# Altium integrated library ST Memory EPROM 1-16 Mbit.IntLib: 1093 symbols (part 15 of 25)
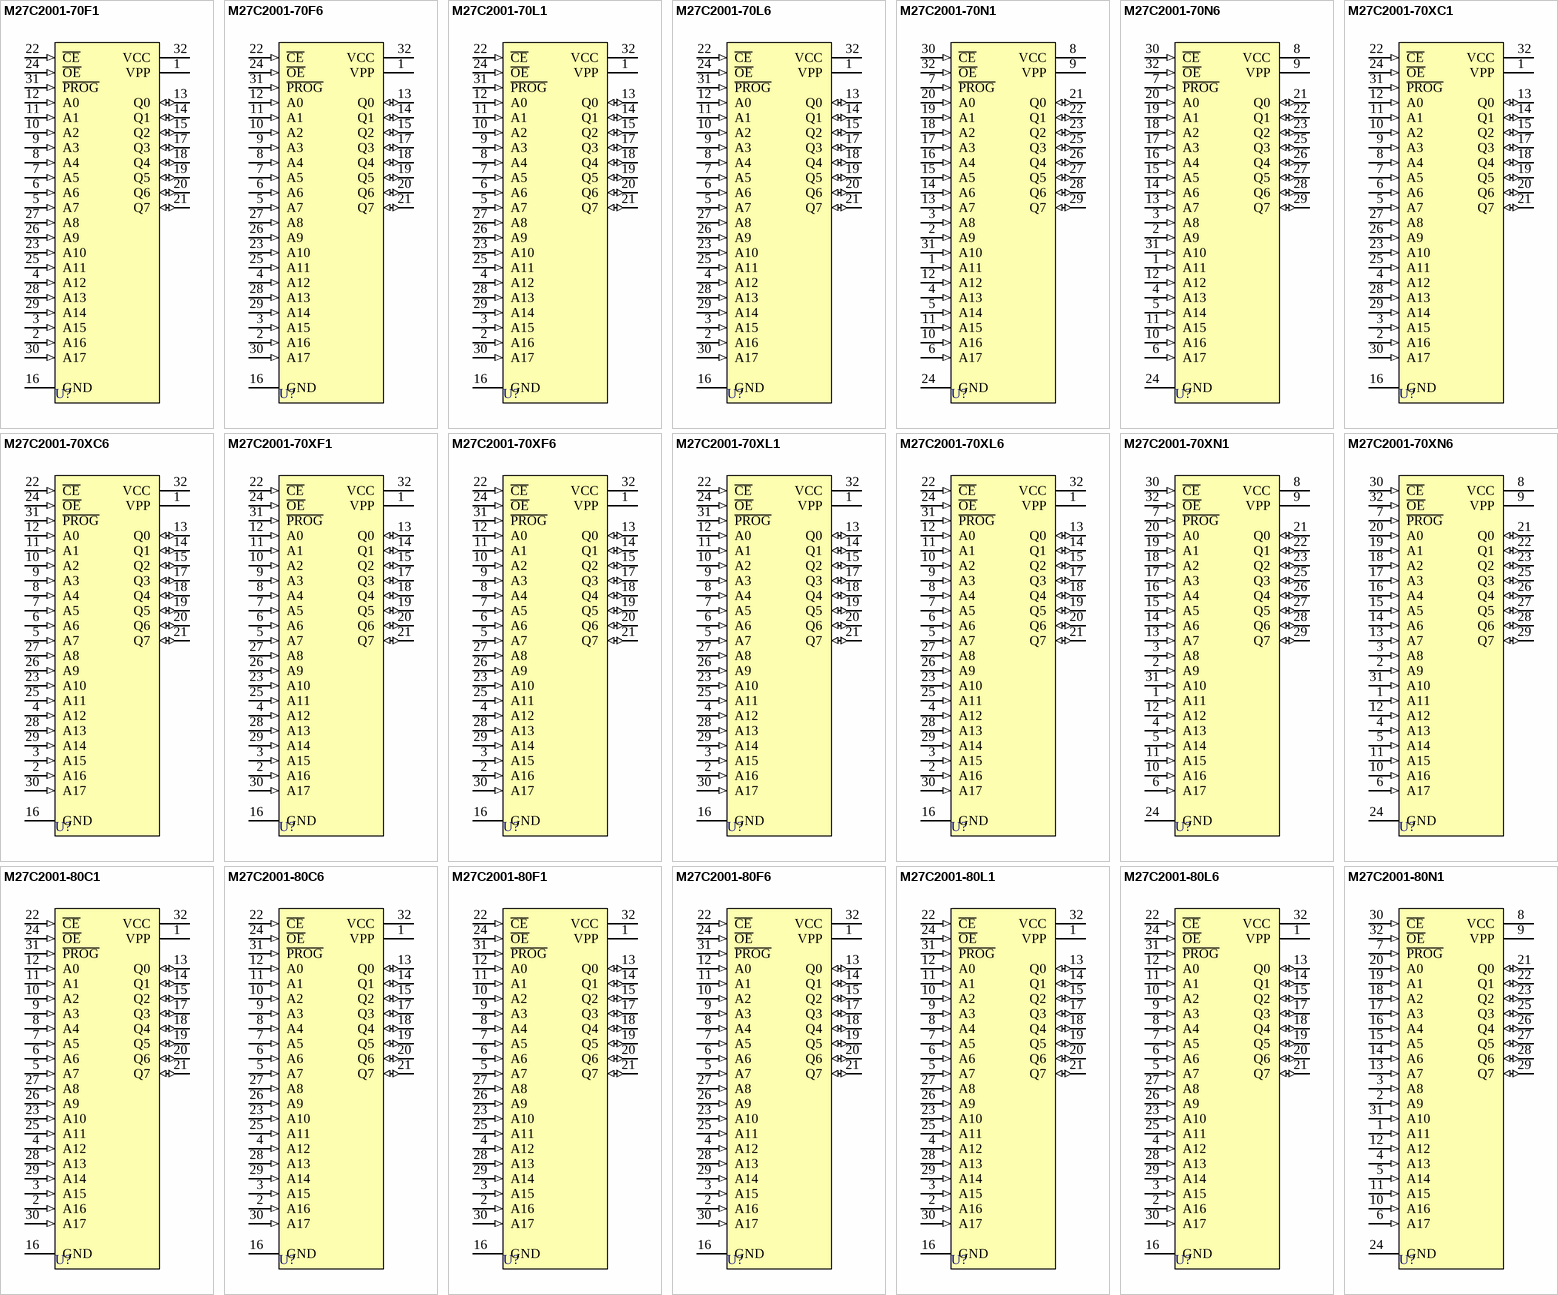
[diagram p71: symbols M27C2001-70F1 to M27C2001-80N1]

## M27C2001-70F6
designator U?
2 Mbit (256Kb x 8) UV EPROM and OTP EPROM; Published: 24-Aug-2001; LatestRevisionDate: 6-Jun-2005; LatestRevisionNote: Stylized 3D Model Added.; DatasheetDocument: Apr-1999; PackageReference: FDIP32W; Publisher: Altium Limited; ComponentLink1Description: Manufacturer Link; ComponentLink1URL: http://www.st.com/; ComponentLink2Description: Datasheet; ComponentLink2URL: http://www.st.com/stonline/products/literature/ds/2383/m27c2001.pdf
footprint FDIP32W (Ceramic Frit-seal DIP, Window; 32 Leads; Row Spacing 15.24 mm; Pitch 2.54 mm)
3D model FDIP32W (Ceramic Frit-seal DIP, Window; 32 Leads; Row Spacing 15.24 mm; Pitch 2.54 mm)
pins: 1 VPP (power), 2 A16 (in), 3 A15 (in), 4 A12 (in), 5 A7 (in), 6 A6 (in), 7 A5 (in), 8 A4 (in), 9 A3 (in), 10 A2 (in), 11 A1 (in), 12 A0 (in), 13 Q0 (io), 14 Q1 (io), 15 Q2 (io), 16 GND (power), 17 Q3 (io), 18 Q4 (io), 19 Q5 (io), 20 Q6 (io), 21 Q7 (io), 22 ~{CE} (in), 23 A10 (in), 24 ~{OE} (in), 25 A11 (in), 26 A9 (in), 27 A8 (in), 28 A13 (in), 29 A14 (in), 30 A17 (in), 31 ~{PROG} (in), 32 VCC (power)

## M27C2001-70L1
designator U?
2 Mbit (256Kb x 8) UV EPROM and OTP EPROM; Published: 24-Aug-2001; LatestRevisionDate: 17-Jul-2002; LatestRevisionNote: Re-released for DXP Platform.; DatasheetDocument: Apr-1999; PackageReference: LCCC32W; Publisher: Altium Limited; ComponentLink1Description: Manufacturer Link; ComponentLink1URL: http://www.st.com/; ComponentLink2Description: Datasheet; ComponentLink2URL: http://www.st.com/stonline/products/literature/ds/2383/m27c2001.pdf
footprint LCCC32W (Leadless Chip Carrier, Ceramic, Window; 32 Terminals; Body 11.4 x 14 mm)
pins: 1 VPP (power), 2 A16 (in), 3 A15 (in), 4 A12 (in), 5 A7 (in), 6 A6 (in), 7 A5 (in), 8 A4 (in), 9 A3 (in), 10 A2 (in), 11 A1 (in), 12 A0 (in), 13 Q0 (io), 14 Q1 (io), 15 Q2 (io), 16 GND (power), 17 Q3 (io), 18 Q4 (io), 19 Q5 (io), 20 Q6 (io), 21 Q7 (io), 22 ~{CE} (in), 23 A10 (in), 24 ~{OE} (in), 25 A11 (in), 26 A9 (in), 27 A8 (in), 28 A13 (in), 29 A14 (in), 30 A17 (in), 31 ~{PROG} (in), 32 VCC (power)

## M27C2001-70L6
designator U?
2 Mbit (256Kb x 8) UV EPROM and OTP EPROM; Published: 24-Aug-2001; LatestRevisionDate: 17-Jul-2002; LatestRevisionNote: Re-released for DXP Platform.; DatasheetDocument: Apr-1999; PackageReference: LCCC32W; Publisher: Altium Limited; ComponentLink1Description: Manufacturer Link; ComponentLink1URL: http://www.st.com/; ComponentLink2Description: Datasheet; ComponentLink2URL: http://www.st.com/stonline/products/literature/ds/2383/m27c2001.pdf
footprint LCCC32W (Leadless Chip Carrier, Ceramic, Window; 32 Terminals; Body 11.4 x 14 mm)
pins: 1 VPP (power), 2 A16 (in), 3 A15 (in), 4 A12 (in), 5 A7 (in), 6 A6 (in), 7 A5 (in), 8 A4 (in), 9 A3 (in), 10 A2 (in), 11 A1 (in), 12 A0 (in), 13 Q0 (io), 14 Q1 (io), 15 Q2 (io), 16 GND (power), 17 Q3 (io), 18 Q4 (io), 19 Q5 (io), 20 Q6 (io), 21 Q7 (io), 22 ~{CE} (in), 23 A10 (in), 24 ~{OE} (in), 25 A11 (in), 26 A9 (in), 27 A8 (in), 28 A13 (in), 29 A14 (in), 30 A17 (in), 31 ~{PROG} (in), 32 VCC (power)

## M27C2001-70N1
designator U?
2 Mbit (256Kb x 8) UV EPROM and OTP EPROM; Published: 24-Aug-2001; LatestRevisionDate: 6-Jun-2005; LatestRevisionNote: Stylized 3D Model Added.; DatasheetDocument: Apr-1999; PackageDocument: Mar-1999; PackageReference: TSOP32; Publisher: Altium Limited; Code_JEDEC: MO-142-BD; ComponentLink1Description: Manufacturer Link; ComponentLink1URL: http://www.st.com/; ComponentLink2Description: Datasheet; ComponentLink2URL: http://www.st.com/stonline/products/literature/ds/2383/m27c2001.pdf
footprint TSOP32 (Shrink Small Outline, Plastic, Thin; 32 Leads; Body Width 18.4 mm; Pitch 0.5 mm)
3D model TSOP32 (Shrink Small Outline, Plastic, Thin; 32 Leads; Body Width 18.4 mm; Pitch 0.5 mm)
pins: 1 A11 (in), 2 A9 (in), 3 A8 (in), 4 A13 (in), 5 A14 (in), 6 A17 (in), 7 ~{PROG} (in), 8 VCC (power), 9 VPP (power), 10 A16 (in), 11 A15 (in), 12 A12 (in), 13 A7 (in), 14 A6 (in), 15 A5 (in), 16 A4 (in), 17 A3 (in), 18 A2 (in), 19 A1 (in), 20 A0 (in), 21 Q0 (io), 22 Q1 (io), 23 Q2 (io), 24 GND (power), 25 Q3 (io), 26 Q4 (io), 27 Q5 (io), 28 Q6 (io), 29 Q7 (io), 30 ~{CE} (in), 31 A10 (in), 32 ~{OE} (in)

## M27C2001-70N6
designator U?
2 Mbit (256Kb x 8) UV EPROM and OTP EPROM; Published: 24-Aug-2001; LatestRevisionDate: 6-Jun-2005; LatestRevisionNote: Stylized 3D Model Added.; DatasheetDocument: Apr-1999; PackageDocument: Mar-1999; PackageReference: TSOP32; Publisher: Altium Limited; Code_JEDEC: MO-142-BD; ComponentLink1Description: Manufacturer Link; ComponentLink1URL: http://www.st.com/; ComponentLink2Description: Datasheet; ComponentLink2URL: http://www.st.com/stonline/products/literature/ds/2383/m27c2001.pdf
footprint TSOP32 (Shrink Small Outline, Plastic, Thin; 32 Leads; Body Width 18.4 mm; Pitch 0.5 mm)
3D model TSOP32 (Shrink Small Outline, Plastic, Thin; 32 Leads; Body Width 18.4 mm; Pitch 0.5 mm)
pins: 1 A11 (in), 2 A9 (in), 3 A8 (in), 4 A13 (in), 5 A14 (in), 6 A17 (in), 7 ~{PROG} (in), 8 VCC (power), 9 VPP (power), 10 A16 (in), 11 A15 (in), 12 A12 (in), 13 A7 (in), 14 A6 (in), 15 A5 (in), 16 A4 (in), 17 A3 (in), 18 A2 (in), 19 A1 (in), 20 A0 (in), 21 Q0 (io), 22 Q1 (io), 23 Q2 (io), 24 GND (power), 25 Q3 (io), 26 Q4 (io), 27 Q5 (io), 28 Q6 (io), 29 Q7 (io), 30 ~{CE} (in), 31 A10 (in), 32 ~{OE} (in)

## M27C2001-70XC1
designator U?
2 Mbit (256Kb x 8) UV EPROM and OTP EPROM; Published: 24-Aug-2001; LatestRevisionDate: 6-Jun-2005; LatestRevisionNote: Stylized 3D Model Added.; DatasheetDocument: Apr-1999; PackageDocument: Jun-1998; PackageReference: PLCC32; Publisher: Altium Limited; Code_JEDEC: MS-016-AE; Code_IPC: PLCC/R-32; ComponentLink1Description: Manufacturer Link; ComponentLink1URL: http://www.st.com/; ComponentLink2Description: Datasheet; ComponentLink2URL: http://www.st.com/stonline/products/literature/ds/2383/m27c2001.pdf
footprint PLCC32 (Leaded Chip Carrier; 32 Leads; Body 11.4 x 14 mm)
3D model M27C2001-PLCC32 (Leaded Chip Carrier; 32 Leads; Body 11.4 x 14 mm)
pins: 1 VPP (power), 2 A16 (in), 3 A15 (in), 4 A12 (in), 5 A7 (in), 6 A6 (in), 7 A5 (in), 8 A4 (in), 9 A3 (in), 10 A2 (in), 11 A1 (in), 12 A0 (in), 13 Q0 (io), 14 Q1 (io), 15 Q2 (io), 16 GND (power), 17 Q3 (io), 18 Q4 (io), 19 Q5 (io), 20 Q6 (io), 21 Q7 (io), 22 ~{CE} (in), 23 A10 (in), 24 ~{OE} (in), 25 A11 (in), 26 A9 (in), 27 A8 (in), 28 A13 (in), 29 A14 (in), 30 A17 (in), 31 ~{PROG} (in), 32 VCC (power)

## M27C2001-70XC6
designator U?
2 Mbit (256Kb x 8) UV EPROM and OTP EPROM; Published: 24-Aug-2001; LatestRevisionDate: 6-Jun-2005; LatestRevisionNote: Stylized 3D Model Added.; DatasheetDocument: Apr-1999; PackageDocument: Jun-1998; PackageReference: PLCC32; Publisher: Altium Limited; Code_JEDEC: MS-016-AE; Code_IPC: PLCC/R-32; ComponentLink1Description: Manufacturer Link; ComponentLink1URL: http://www.st.com/; ComponentLink2Description: Datasheet; ComponentLink2URL: http://www.st.com/stonline/products/literature/ds/2383/m27c2001.pdf
footprint PLCC32 (Leaded Chip Carrier; 32 Leads; Body 11.4 x 14 mm)
3D model M27C2001-PLCC32 (Leaded Chip Carrier; 32 Leads; Body 11.4 x 14 mm)
pins: 1 VPP (power), 2 A16 (in), 3 A15 (in), 4 A12 (in), 5 A7 (in), 6 A6 (in), 7 A5 (in), 8 A4 (in), 9 A3 (in), 10 A2 (in), 11 A1 (in), 12 A0 (in), 13 Q0 (io), 14 Q1 (io), 15 Q2 (io), 16 GND (power), 17 Q3 (io), 18 Q4 (io), 19 Q5 (io), 20 Q6 (io), 21 Q7 (io), 22 ~{CE} (in), 23 A10 (in), 24 ~{OE} (in), 25 A11 (in), 26 A9 (in), 27 A8 (in), 28 A13 (in), 29 A14 (in), 30 A17 (in), 31 ~{PROG} (in), 32 VCC (power)

## M27C2001-70XF1
designator U?
2 Mbit (256Kb x 8) UV EPROM and OTP EPROM; Published: 24-Aug-2001; LatestRevisionDate: 6-Jun-2005; LatestRevisionNote: Stylized 3D Model Added.; DatasheetDocument: Apr-1999; PackageReference: FDIP32W; Publisher: Altium Limited; ComponentLink1Description: Manufacturer Link; ComponentLink1URL: http://www.st.com/; ComponentLink2Description: Datasheet; ComponentLink2URL: http://www.st.com/stonline/products/literature/ds/2383/m27c2001.pdf
footprint FDIP32W (Ceramic Frit-seal DIP, Window; 32 Leads; Row Spacing 15.24 mm; Pitch 2.54 mm)
3D model FDIP32W (Ceramic Frit-seal DIP, Window; 32 Leads; Row Spacing 15.24 mm; Pitch 2.54 mm)
pins: 1 VPP (power), 2 A16 (in), 3 A15 (in), 4 A12 (in), 5 A7 (in), 6 A6 (in), 7 A5 (in), 8 A4 (in), 9 A3 (in), 10 A2 (in), 11 A1 (in), 12 A0 (in), 13 Q0 (io), 14 Q1 (io), 15 Q2 (io), 16 GND (power), 17 Q3 (io), 18 Q4 (io), 19 Q5 (io), 20 Q6 (io), 21 Q7 (io), 22 ~{CE} (in), 23 A10 (in), 24 ~{OE} (in), 25 A11 (in), 26 A9 (in), 27 A8 (in), 28 A13 (in), 29 A14 (in), 30 A17 (in), 31 ~{PROG} (in), 32 VCC (power)

## M27C2001-70XF6
designator U?
2 Mbit (256Kb x 8) UV EPROM and OTP EPROM; Published: 24-Aug-2001; LatestRevisionDate: 6-Jun-2005; LatestRevisionNote: Stylized 3D Model Added.; DatasheetDocument: Apr-1999; PackageReference: FDIP32W; Publisher: Altium Limited; ComponentLink1Description: Manufacturer Link; ComponentLink1URL: http://www.st.com/; ComponentLink2Description: Datasheet; ComponentLink2URL: http://www.st.com/stonline/products/literature/ds/2383/m27c2001.pdf
footprint FDIP32W (Ceramic Frit-seal DIP, Window; 32 Leads; Row Spacing 15.24 mm; Pitch 2.54 mm)
3D model FDIP32W (Ceramic Frit-seal DIP, Window; 32 Leads; Row Spacing 15.24 mm; Pitch 2.54 mm)
pins: 1 VPP (power), 2 A16 (in), 3 A15 (in), 4 A12 (in), 5 A7 (in), 6 A6 (in), 7 A5 (in), 8 A4 (in), 9 A3 (in), 10 A2 (in), 11 A1 (in), 12 A0 (in), 13 Q0 (io), 14 Q1 (io), 15 Q2 (io), 16 GND (power), 17 Q3 (io), 18 Q4 (io), 19 Q5 (io), 20 Q6 (io), 21 Q7 (io), 22 ~{CE} (in), 23 A10 (in), 24 ~{OE} (in), 25 A11 (in), 26 A9 (in), 27 A8 (in), 28 A13 (in), 29 A14 (in), 30 A17 (in), 31 ~{PROG} (in), 32 VCC (power)

## M27C2001-70XL1
designator U?
2 Mbit (256Kb x 8) UV EPROM and OTP EPROM; Published: 24-Aug-2001; LatestRevisionDate: 17-Jul-2002; LatestRevisionNote: Re-released for DXP Platform.; DatasheetDocument: Apr-1999; PackageReference: LCCC32W; Publisher: Altium Limited; ComponentLink1Description: Manufacturer Link; ComponentLink1URL: http://www.st.com/; ComponentLink2Description: Datasheet; ComponentLink2URL: http://www.st.com/stonline/products/literature/ds/2383/m27c2001.pdf
footprint LCCC32W (Leadless Chip Carrier, Ceramic, Window; 32 Terminals; Body 11.4 x 14 mm)
pins: 1 VPP (power), 2 A16 (in), 3 A15 (in), 4 A12 (in), 5 A7 (in), 6 A6 (in), 7 A5 (in), 8 A4 (in), 9 A3 (in), 10 A2 (in), 11 A1 (in), 12 A0 (in), 13 Q0 (io), 14 Q1 (io), 15 Q2 (io), 16 GND (power), 17 Q3 (io), 18 Q4 (io), 19 Q5 (io), 20 Q6 (io), 21 Q7 (io), 22 ~{CE} (in), 23 A10 (in), 24 ~{OE} (in), 25 A11 (in), 26 A9 (in), 27 A8 (in), 28 A13 (in), 29 A14 (in), 30 A17 (in), 31 ~{PROG} (in), 32 VCC (power)

## M27C2001-70XL6
designator U?
2 Mbit (256Kb x 8) UV EPROM and OTP EPROM; Published: 24-Aug-2001; LatestRevisionDate: 17-Jul-2002; LatestRevisionNote: Re-released for DXP Platform.; DatasheetDocument: Apr-1999; PackageReference: LCCC32W; Publisher: Altium Limited; ComponentLink1Description: Manufacturer Link; ComponentLink1URL: http://www.st.com/; ComponentLink2Description: Datasheet; ComponentLink2URL: http://www.st.com/stonline/products/literature/ds/2383/m27c2001.pdf
footprint LCCC32W (Leadless Chip Carrier, Ceramic, Window; 32 Terminals; Body 11.4 x 14 mm)
pins: 1 VPP (power), 2 A16 (in), 3 A15 (in), 4 A12 (in), 5 A7 (in), 6 A6 (in), 7 A5 (in), 8 A4 (in), 9 A3 (in), 10 A2 (in), 11 A1 (in), 12 A0 (in), 13 Q0 (io), 14 Q1 (io), 15 Q2 (io), 16 GND (power), 17 Q3 (io), 18 Q4 (io), 19 Q5 (io), 20 Q6 (io), 21 Q7 (io), 22 ~{CE} (in), 23 A10 (in), 24 ~{OE} (in), 25 A11 (in), 26 A9 (in), 27 A8 (in), 28 A13 (in), 29 A14 (in), 30 A17 (in), 31 ~{PROG} (in), 32 VCC (power)

## M27C2001-70XN1
designator U?
2 Mbit (256Kb x 8) UV EPROM and OTP EPROM; Published: 24-Aug-2001; LatestRevisionDate: 6-Jun-2005; LatestRevisionNote: Stylized 3D Model Added.; DatasheetDocument: Apr-1999; PackageDocument: Mar-1999; PackageReference: TSOP32; Publisher: Altium Limited; Code_JEDEC: MO-142-BD; ComponentLink1Description: Manufacturer Link; ComponentLink1URL: http://www.st.com/; ComponentLink2Description: Datasheet; ComponentLink2URL: http://www.st.com/stonline/products/literature/ds/2383/m27c2001.pdf
footprint TSOP32 (Shrink Small Outline, Plastic, Thin; 32 Leads; Body Width 18.4 mm; Pitch 0.5 mm)
3D model TSOP32 (Shrink Small Outline, Plastic, Thin; 32 Leads; Body Width 18.4 mm; Pitch 0.5 mm)
pins: 1 A11 (in), 2 A9 (in), 3 A8 (in), 4 A13 (in), 5 A14 (in), 6 A17 (in), 7 ~{PROG} (in), 8 VCC (power), 9 VPP (power), 10 A16 (in), 11 A15 (in), 12 A12 (in), 13 A7 (in), 14 A6 (in), 15 A5 (in), 16 A4 (in), 17 A3 (in), 18 A2 (in), 19 A1 (in), 20 A0 (in), 21 Q0 (io), 22 Q1 (io), 23 Q2 (io), 24 GND (power), 25 Q3 (io), 26 Q4 (io), 27 Q5 (io), 28 Q6 (io), 29 Q7 (io), 30 ~{CE} (in), 31 A10 (in), 32 ~{OE} (in)

## M27C2001-70XN6
designator U?
2 Mbit (256Kb x 8) UV EPROM and OTP EPROM; Published: 24-Aug-2001; LatestRevisionDate: 6-Jun-2005; LatestRevisionNote: Stylized 3D Model Added.; DatasheetDocument: Apr-1999; PackageDocument: Mar-1999; PackageReference: TSOP32; Publisher: Altium Limited; Code_JEDEC: MO-142-BD; ComponentLink1Description: Manufacturer Link; ComponentLink1URL: http://www.st.com/; ComponentLink2Description: Datasheet; ComponentLink2URL: http://www.st.com/stonline/products/literature/ds/2383/m27c2001.pdf
footprint TSOP32 (Shrink Small Outline, Plastic, Thin; 32 Leads; Body Width 18.4 mm; Pitch 0.5 mm)
3D model TSOP32 (Shrink Small Outline, Plastic, Thin; 32 Leads; Body Width 18.4 mm; Pitch 0.5 mm)
pins: 1 A11 (in), 2 A9 (in), 3 A8 (in), 4 A13 (in), 5 A14 (in), 6 A17 (in), 7 ~{PROG} (in), 8 VCC (power), 9 VPP (power), 10 A16 (in), 11 A15 (in), 12 A12 (in), 13 A7 (in), 14 A6 (in), 15 A5 (in), 16 A4 (in), 17 A3 (in), 18 A2 (in), 19 A1 (in), 20 A0 (in), 21 Q0 (io), 22 Q1 (io), 23 Q2 (io), 24 GND (power), 25 Q3 (io), 26 Q4 (io), 27 Q5 (io), 28 Q6 (io), 29 Q7 (io), 30 ~{CE} (in), 31 A10 (in), 32 ~{OE} (in)

## M27C2001-80C1
designator U?
2 Mbit (256Kb x 8) UV EPROM and OTP EPROM; Published: 24-Aug-2001; LatestRevisionDate: 6-Jun-2005; LatestRevisionNote: Stylized 3D Model Added.; DatasheetDocument: Apr-1999; PackageDocument: Jun-1998; PackageReference: PLCC32; Publisher: Altium Limited; Code_JEDEC: MS-016-AE; Code_IPC: PLCC/R-32; ComponentLink1Description: Manufacturer Link; ComponentLink1URL: http://www.st.com/; ComponentLink2Description: Datasheet; ComponentLink2URL: http://www.st.com/stonline/products/literature/ds/2383/m27c2001.pdf
footprint PLCC32 (Leaded Chip Carrier; 32 Leads; Body 11.4 x 14 mm)
3D model M27C2001-PLCC32 (Leaded Chip Carrier; 32 Leads; Body 11.4 x 14 mm)
pins: 1 VPP (power), 2 A16 (in), 3 A15 (in), 4 A12 (in), 5 A7 (in), 6 A6 (in), 7 A5 (in), 8 A4 (in), 9 A3 (in), 10 A2 (in), 11 A1 (in), 12 A0 (in), 13 Q0 (io), 14 Q1 (io), 15 Q2 (io), 16 GND (power), 17 Q3 (io), 18 Q4 (io), 19 Q5 (io), 20 Q6 (io), 21 Q7 (io), 22 ~{CE} (in), 23 A10 (in), 24 ~{OE} (in), 25 A11 (in), 26 A9 (in), 27 A8 (in), 28 A13 (in), 29 A14 (in), 30 A17 (in), 31 ~{PROG} (in), 32 VCC (power)

## M27C2001-80C6
designator U?
2 Mbit (256Kb x 8) UV EPROM and OTP EPROM; Published: 24-Aug-2001; LatestRevisionDate: 6-Jun-2005; LatestRevisionNote: Stylized 3D Model Added.; DatasheetDocument: Apr-1999; PackageDocument: Jun-1998; PackageReference: PLCC32; Publisher: Altium Limited; Code_JEDEC: MS-016-AE; Code_IPC: PLCC/R-32; ComponentLink1Description: Manufacturer Link; ComponentLink1URL: http://www.st.com/; ComponentLink2Description: Datasheet; ComponentLink2URL: http://www.st.com/stonline/products/literature/ds/2383/m27c2001.pdf
footprint PLCC32 (Leaded Chip Carrier; 32 Leads; Body 11.4 x 14 mm)
3D model M27C2001-PLCC32 (Leaded Chip Carrier; 32 Leads; Body 11.4 x 14 mm)
pins: 1 VPP (power), 2 A16 (in), 3 A15 (in), 4 A12 (in), 5 A7 (in), 6 A6 (in), 7 A5 (in), 8 A4 (in), 9 A3 (in), 10 A2 (in), 11 A1 (in), 12 A0 (in), 13 Q0 (io), 14 Q1 (io), 15 Q2 (io), 16 GND (power), 17 Q3 (io), 18 Q4 (io), 19 Q5 (io), 20 Q6 (io), 21 Q7 (io), 22 ~{CE} (in), 23 A10 (in), 24 ~{OE} (in), 25 A11 (in), 26 A9 (in), 27 A8 (in), 28 A13 (in), 29 A14 (in), 30 A17 (in), 31 ~{PROG} (in), 32 VCC (power)

## M27C2001-80F1
designator U?
2 Mbit (256Kb x 8) UV EPROM and OTP EPROM; Published: 24-Aug-2001; LatestRevisionDate: 6-Jun-2005; LatestRevisionNote: Stylized 3D Model Added.; DatasheetDocument: Apr-1999; PackageReference: FDIP32W; Publisher: Altium Limited; ComponentLink1Description: Manufacturer Link; ComponentLink1URL: http://www.st.com/; ComponentLink2Description: Datasheet; ComponentLink2URL: http://www.st.com/stonline/products/literature/ds/2383/m27c2001.pdf
footprint FDIP32W (Ceramic Frit-seal DIP, Window; 32 Leads; Row Spacing 15.24 mm; Pitch 2.54 mm)
3D model FDIP32W (Ceramic Frit-seal DIP, Window; 32 Leads; Row Spacing 15.24 mm; Pitch 2.54 mm)
pins: 1 VPP (power), 2 A16 (in), 3 A15 (in), 4 A12 (in), 5 A7 (in), 6 A6 (in), 7 A5 (in), 8 A4 (in), 9 A3 (in), 10 A2 (in), 11 A1 (in), 12 A0 (in), 13 Q0 (io), 14 Q1 (io), 15 Q2 (io), 16 GND (power), 17 Q3 (io), 18 Q4 (io), 19 Q5 (io), 20 Q6 (io), 21 Q7 (io), 22 ~{CE} (in), 23 A10 (in), 24 ~{OE} (in), 25 A11 (in), 26 A9 (in), 27 A8 (in), 28 A13 (in), 29 A14 (in), 30 A17 (in), 31 ~{PROG} (in), 32 VCC (power)

## M27C2001-80F6
designator U?
2 Mbit (256Kb x 8) UV EPROM and OTP EPROM; Published: 24-Aug-2001; LatestRevisionDate: 6-Jun-2005; LatestRevisionNote: Stylized 3D Model Added.; DatasheetDocument: Apr-1999; PackageReference: FDIP32W; Publisher: Altium Limited; ComponentLink1Description: Manufacturer Link; ComponentLink1URL: http://www.st.com/; ComponentLink2Description: Datasheet; ComponentLink2URL: http://www.st.com/stonline/products/literature/ds/2383/m27c2001.pdf
footprint FDIP32W (Ceramic Frit-seal DIP, Window; 32 Leads; Row Spacing 15.24 mm; Pitch 2.54 mm)
3D model FDIP32W (Ceramic Frit-seal DIP, Window; 32 Leads; Row Spacing 15.24 mm; Pitch 2.54 mm)
pins: 1 VPP (power), 2 A16 (in), 3 A15 (in), 4 A12 (in), 5 A7 (in), 6 A6 (in), 7 A5 (in), 8 A4 (in), 9 A3 (in), 10 A2 (in), 11 A1 (in), 12 A0 (in), 13 Q0 (io), 14 Q1 (io), 15 Q2 (io), 16 GND (power), 17 Q3 (io), 18 Q4 (io), 19 Q5 (io), 20 Q6 (io), 21 Q7 (io), 22 ~{CE} (in), 23 A10 (in), 24 ~{OE} (in), 25 A11 (in), 26 A9 (in), 27 A8 (in), 28 A13 (in), 29 A14 (in), 30 A17 (in), 31 ~{PROG} (in), 32 VCC (power)

## M27C2001-80L1
designator U?
2 Mbit (256Kb x 8) UV EPROM and OTP EPROM; Published: 24-Aug-2001; LatestRevisionDate: 17-Jul-2002; LatestRevisionNote: Re-released for DXP Platform.; DatasheetDocument: Apr-1999; PackageReference: LCCC32W; Publisher: Altium Limited; ComponentLink1Description: Manufacturer Link; ComponentLink1URL: http://www.st.com/; ComponentLink2Description: Datasheet; ComponentLink2URL: http://www.st.com/stonline/products/literature/ds/2383/m27c2001.pdf
footprint LCCC32W (Leadless Chip Carrier, Ceramic, Window; 32 Terminals; Body 11.4 x 14 mm)
pins: 1 VPP (power), 2 A16 (in), 3 A15 (in), 4 A12 (in), 5 A7 (in), 6 A6 (in), 7 A5 (in), 8 A4 (in), 9 A3 (in), 10 A2 (in), 11 A1 (in), 12 A0 (in), 13 Q0 (io), 14 Q1 (io), 15 Q2 (io), 16 GND (power), 17 Q3 (io), 18 Q4 (io), 19 Q5 (io), 20 Q6 (io), 21 Q7 (io), 22 ~{CE} (in), 23 A10 (in), 24 ~{OE} (in), 25 A11 (in), 26 A9 (in), 27 A8 (in), 28 A13 (in), 29 A14 (in), 30 A17 (in), 31 ~{PROG} (in), 32 VCC (power)

## M27C2001-80L6
designator U?
2 Mbit (256Kb x 8) UV EPROM and OTP EPROM; Published: 24-Aug-2001; LatestRevisionDate: 17-Jul-2002; LatestRevisionNote: Re-released for DXP Platform.; DatasheetDocument: Apr-1999; PackageReference: LCCC32W; Publisher: Altium Limited; ComponentLink1Description: Manufacturer Link; ComponentLink1URL: http://www.st.com/; ComponentLink2Description: Datasheet; ComponentLink2URL: http://www.st.com/stonline/products/literature/ds/2383/m27c2001.pdf
footprint LCCC32W (Leadless Chip Carrier, Ceramic, Window; 32 Terminals; Body 11.4 x 14 mm)
pins: 1 VPP (power), 2 A16 (in), 3 A15 (in), 4 A12 (in), 5 A7 (in), 6 A6 (in), 7 A5 (in), 8 A4 (in), 9 A3 (in), 10 A2 (in), 11 A1 (in), 12 A0 (in), 13 Q0 (io), 14 Q1 (io), 15 Q2 (io), 16 GND (power), 17 Q3 (io), 18 Q4 (io), 19 Q5 (io), 20 Q6 (io), 21 Q7 (io), 22 ~{CE} (in), 23 A10 (in), 24 ~{OE} (in), 25 A11 (in), 26 A9 (in), 27 A8 (in), 28 A13 (in), 29 A14 (in), 30 A17 (in), 31 ~{PROG} (in), 32 VCC (power)

## M27C2001-80N1
designator U?
2 Mbit (256Kb x 8) UV EPROM and OTP EPROM; Published: 24-Aug-2001; LatestRevisionDate: 6-Jun-2005; LatestRevisionNote: Stylized 3D Model Added.; DatasheetDocument: Apr-1999; PackageDocument: Mar-1999; PackageReference: TSOP32; Publisher: Altium Limited; Code_JEDEC: MO-142-BD; ComponentLink1Description: Manufacturer Link; ComponentLink1URL: http://www.st.com/; ComponentLink2Description: Datasheet; ComponentLink2URL: http://www.st.com/stonline/products/literature/ds/2383/m27c2001.pdf
footprint TSOP32 (Shrink Small Outline, Plastic, Thin; 32 Leads; Body Width 18.4 mm; Pitch 0.5 mm)
3D model TSOP32 (Shrink Small Outline, Plastic, Thin; 32 Leads; Body Width 18.4 mm; Pitch 0.5 mm)
pins: 1 A11 (in), 2 A9 (in), 3 A8 (in), 4 A13 (in), 5 A14 (in), 6 A17 (in), 7 ~{PROG} (in), 8 VCC (power), 9 VPP (power), 10 A16 (in), 11 A15 (in), 12 A12 (in), 13 A7 (in), 14 A6 (in), 15 A5 (in), 16 A4 (in), 17 A3 (in), 18 A2 (in), 19 A1 (in), 20 A0 (in), 21 Q0 (io), 22 Q1 (io), 23 Q2 (io), 24 GND (power), 25 Q3 (io), 26 Q4 (io), 27 Q5 (io), 28 Q6 (io), 29 Q7 (io), 30 ~{CE} (in), 31 A10 (in), 32 ~{OE} (in)

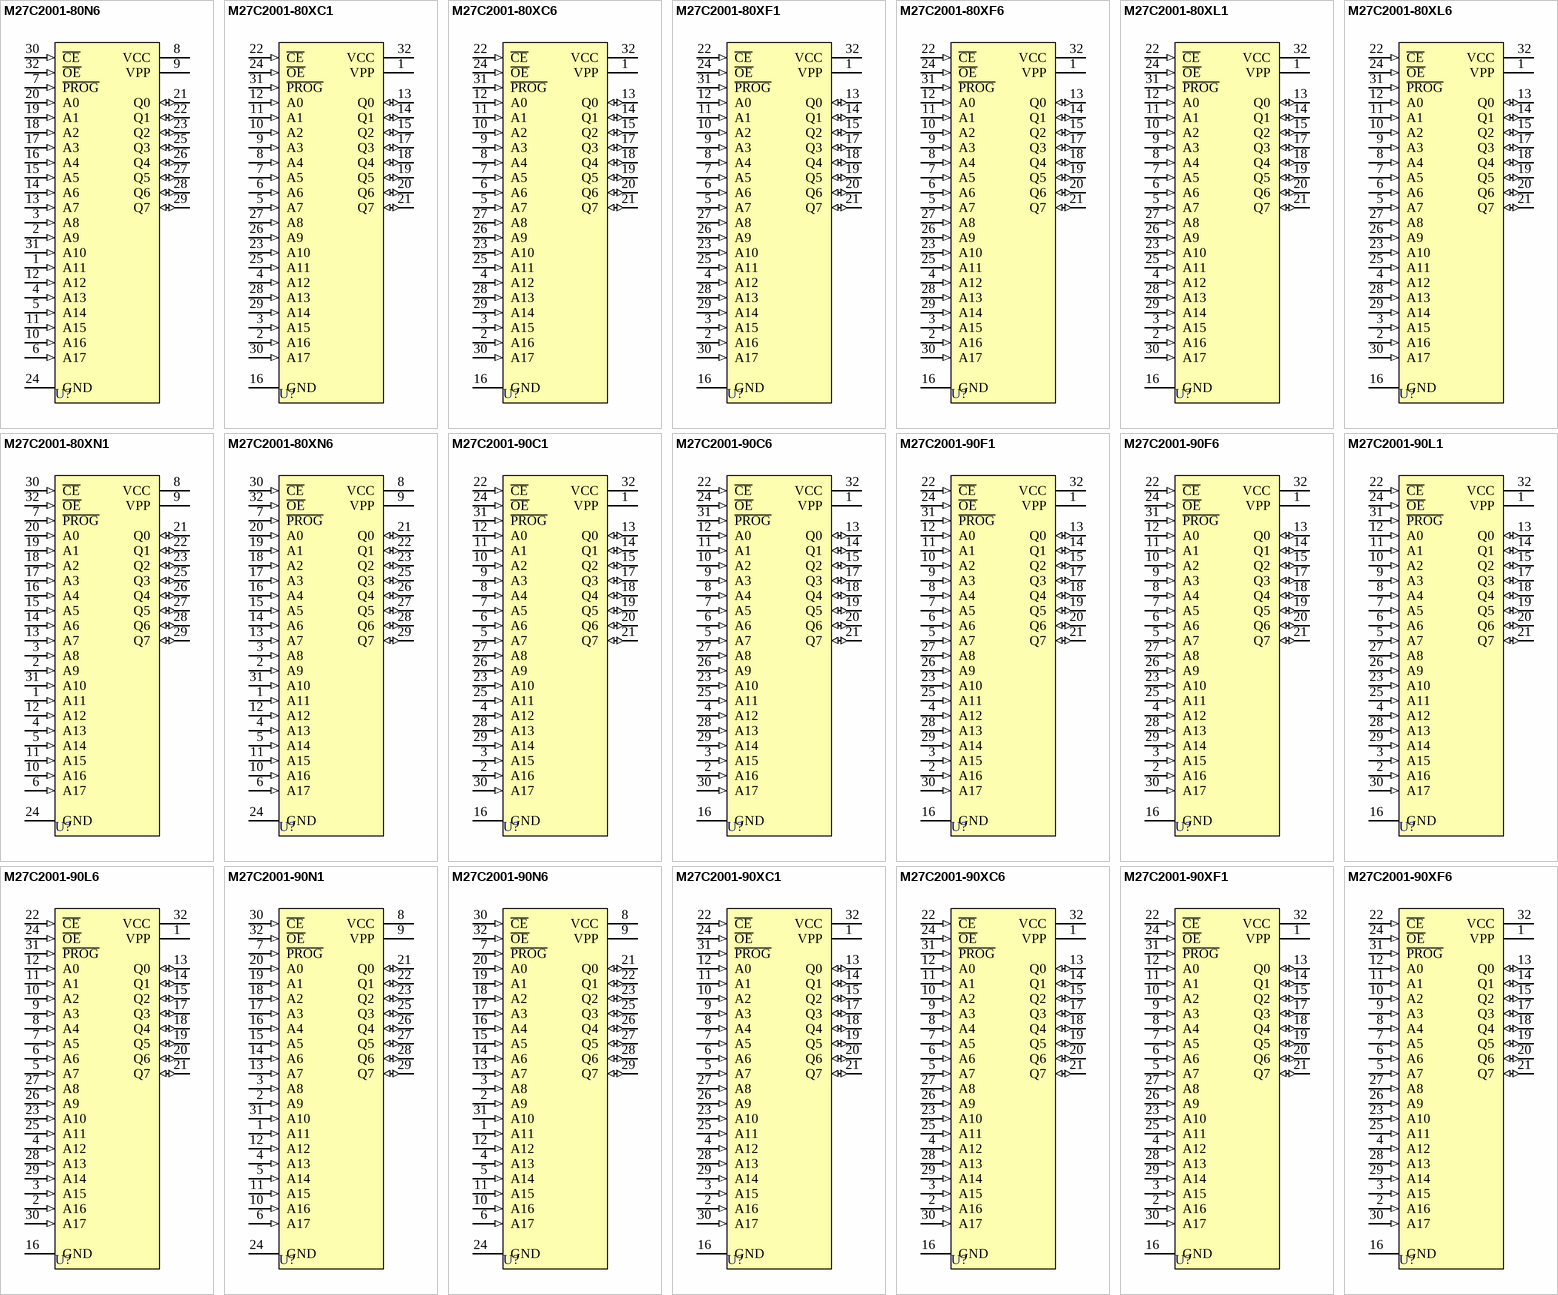
[diagram p33: symbols M27C2001-80N6 to M27C2001-90XF6]

## M27C2001-80N6
designator U?
2 Mbit (256Kb x 8) UV EPROM and OTP EPROM; Published: 24-Aug-2001; LatestRevisionDate: 6-Jun-2005; LatestRevisionNote: Stylized 3D Model Added.; DatasheetDocument: Apr-1999; PackageDocument: Mar-1999; PackageReference: TSOP32; Publisher: Altium Limited; Code_JEDEC: MO-142-BD; ComponentLink1Description: Manufacturer Link; ComponentLink1URL: http://www.st.com/; ComponentLink2Description: Datasheet; ComponentLink2URL: http://www.st.com/stonline/products/literature/ds/2383/m27c2001.pdf
footprint TSOP32 (Shrink Small Outline, Plastic, Thin; 32 Leads; Body Width 18.4 mm; Pitch 0.5 mm)
3D model TSOP32 (Shrink Small Outline, Plastic, Thin; 32 Leads; Body Width 18.4 mm; Pitch 0.5 mm)
pins: 1 A11 (in), 2 A9 (in), 3 A8 (in), 4 A13 (in), 5 A14 (in), 6 A17 (in), 7 ~{PROG} (in), 8 VCC (power), 9 VPP (power), 10 A16 (in), 11 A15 (in), 12 A12 (in), 13 A7 (in), 14 A6 (in), 15 A5 (in), 16 A4 (in), 17 A3 (in), 18 A2 (in), 19 A1 (in), 20 A0 (in), 21 Q0 (io), 22 Q1 (io), 23 Q2 (io), 24 GND (power), 25 Q3 (io), 26 Q4 (io), 27 Q5 (io), 28 Q6 (io), 29 Q7 (io), 30 ~{CE} (in), 31 A10 (in), 32 ~{OE} (in)

## M27C2001-80XC1
designator U?
2 Mbit (256Kb x 8) UV EPROM and OTP EPROM; Published: 24-Aug-2001; LatestRevisionDate: 6-Jun-2005; LatestRevisionNote: Stylized 3D Model Added.; DatasheetDocument: Apr-1999; PackageDocument: Jun-1998; PackageReference: PLCC32; Publisher: Altium Limited; Code_JEDEC: MS-016-AE; Code_IPC: PLCC/R-32; ComponentLink1Description: Manufacturer Link; ComponentLink1URL: http://www.st.com/; ComponentLink2Description: Datasheet; ComponentLink2URL: http://www.st.com/stonline/products/literature/ds/2383/m27c2001.pdf
footprint PLCC32 (Leaded Chip Carrier; 32 Leads; Body 11.4 x 14 mm)
3D model M27C2001-PLCC32 (Leaded Chip Carrier; 32 Leads; Body 11.4 x 14 mm)
pins: 1 VPP (power), 2 A16 (in), 3 A15 (in), 4 A12 (in), 5 A7 (in), 6 A6 (in), 7 A5 (in), 8 A4 (in), 9 A3 (in), 10 A2 (in), 11 A1 (in), 12 A0 (in), 13 Q0 (io), 14 Q1 (io), 15 Q2 (io), 16 GND (power), 17 Q3 (io), 18 Q4 (io), 19 Q5 (io), 20 Q6 (io), 21 Q7 (io), 22 ~{CE} (in), 23 A10 (in), 24 ~{OE} (in), 25 A11 (in), 26 A9 (in), 27 A8 (in), 28 A13 (in), 29 A14 (in), 30 A17 (in), 31 ~{PROG} (in), 32 VCC (power)

## M27C2001-80XC6
designator U?
2 Mbit (256Kb x 8) UV EPROM and OTP EPROM; Published: 24-Aug-2001; LatestRevisionDate: 6-Jun-2005; LatestRevisionNote: Stylized 3D Model Added.; DatasheetDocument: Apr-1999; PackageDocument: Jun-1998; PackageReference: PLCC32; Publisher: Altium Limited; Code_JEDEC: MS-016-AE; Code_IPC: PLCC/R-32; ComponentLink1Description: Manufacturer Link; ComponentLink1URL: http://www.st.com/; ComponentLink2Description: Datasheet; ComponentLink2URL: http://www.st.com/stonline/products/literature/ds/2383/m27c2001.pdf
footprint PLCC32 (Leaded Chip Carrier; 32 Leads; Body 11.4 x 14 mm)
3D model M27C2001-PLCC32 (Leaded Chip Carrier; 32 Leads; Body 11.4 x 14 mm)
pins: 1 VPP (power), 2 A16 (in), 3 A15 (in), 4 A12 (in), 5 A7 (in), 6 A6 (in), 7 A5 (in), 8 A4 (in), 9 A3 (in), 10 A2 (in), 11 A1 (in), 12 A0 (in), 13 Q0 (io), 14 Q1 (io), 15 Q2 (io), 16 GND (power), 17 Q3 (io), 18 Q4 (io), 19 Q5 (io), 20 Q6 (io), 21 Q7 (io), 22 ~{CE} (in), 23 A10 (in), 24 ~{OE} (in), 25 A11 (in), 26 A9 (in), 27 A8 (in), 28 A13 (in), 29 A14 (in), 30 A17 (in), 31 ~{PROG} (in), 32 VCC (power)

## M27C2001-80XF1
designator U?
2 Mbit (256Kb x 8) UV EPROM and OTP EPROM; Published: 24-Aug-2001; LatestRevisionDate: 6-Jun-2005; LatestRevisionNote: Stylized 3D Model Added.; DatasheetDocument: Apr-1999; PackageReference: FDIP32W; Publisher: Altium Limited; ComponentLink1Description: Manufacturer Link; ComponentLink1URL: http://www.st.com/; ComponentLink2Description: Datasheet; ComponentLink2URL: http://www.st.com/stonline/products/literature/ds/2383/m27c2001.pdf
footprint FDIP32W (Ceramic Frit-seal DIP, Window; 32 Leads; Row Spacing 15.24 mm; Pitch 2.54 mm)
3D model FDIP32W (Ceramic Frit-seal DIP, Window; 32 Leads; Row Spacing 15.24 mm; Pitch 2.54 mm)
pins: 1 VPP (power), 2 A16 (in), 3 A15 (in), 4 A12 (in), 5 A7 (in), 6 A6 (in), 7 A5 (in), 8 A4 (in), 9 A3 (in), 10 A2 (in), 11 A1 (in), 12 A0 (in), 13 Q0 (io), 14 Q1 (io), 15 Q2 (io), 16 GND (power), 17 Q3 (io), 18 Q4 (io), 19 Q5 (io), 20 Q6 (io), 21 Q7 (io), 22 ~{CE} (in), 23 A10 (in), 24 ~{OE} (in), 25 A11 (in), 26 A9 (in), 27 A8 (in), 28 A13 (in), 29 A14 (in), 30 A17 (in), 31 ~{PROG} (in), 32 VCC (power)

## M27C2001-80XF6
designator U?
2 Mbit (256Kb x 8) UV EPROM and OTP EPROM; Published: 24-Aug-2001; LatestRevisionDate: 6-Jun-2005; LatestRevisionNote: Stylized 3D Model Added.; DatasheetDocument: Apr-1999; PackageReference: FDIP32W; Publisher: Altium Limited; ComponentLink1Description: Manufacturer Link; ComponentLink1URL: http://www.st.com/; ComponentLink2Description: Datasheet; ComponentLink2URL: http://www.st.com/stonline/products/literature/ds/2383/m27c2001.pdf
footprint FDIP32W (Ceramic Frit-seal DIP, Window; 32 Leads; Row Spacing 15.24 mm; Pitch 2.54 mm)
3D model FDIP32W (Ceramic Frit-seal DIP, Window; 32 Leads; Row Spacing 15.24 mm; Pitch 2.54 mm)
pins: 1 VPP (power), 2 A16 (in), 3 A15 (in), 4 A12 (in), 5 A7 (in), 6 A6 (in), 7 A5 (in), 8 A4 (in), 9 A3 (in), 10 A2 (in), 11 A1 (in), 12 A0 (in), 13 Q0 (io), 14 Q1 (io), 15 Q2 (io), 16 GND (power), 17 Q3 (io), 18 Q4 (io), 19 Q5 (io), 20 Q6 (io), 21 Q7 (io), 22 ~{CE} (in), 23 A10 (in), 24 ~{OE} (in), 25 A11 (in), 26 A9 (in), 27 A8 (in), 28 A13 (in), 29 A14 (in), 30 A17 (in), 31 ~{PROG} (in), 32 VCC (power)

## M27C2001-80XL1
designator U?
2 Mbit (256Kb x 8) UV EPROM and OTP EPROM; Published: 24-Aug-2001; LatestRevisionDate: 17-Jul-2002; LatestRevisionNote: Re-released for DXP Platform.; DatasheetDocument: Apr-1999; PackageReference: LCCC32W; Publisher: Altium Limited; ComponentLink1Description: Manufacturer Link; ComponentLink1URL: http://www.st.com/; ComponentLink2Description: Datasheet; ComponentLink2URL: http://www.st.com/stonline/products/literature/ds/2383/m27c2001.pdf
footprint LCCC32W (Leadless Chip Carrier, Ceramic, Window; 32 Terminals; Body 11.4 x 14 mm)
pins: 1 VPP (power), 2 A16 (in), 3 A15 (in), 4 A12 (in), 5 A7 (in), 6 A6 (in), 7 A5 (in), 8 A4 (in), 9 A3 (in), 10 A2 (in), 11 A1 (in), 12 A0 (in), 13 Q0 (io), 14 Q1 (io), 15 Q2 (io), 16 GND (power), 17 Q3 (io), 18 Q4 (io), 19 Q5 (io), 20 Q6 (io), 21 Q7 (io), 22 ~{CE} (in), 23 A10 (in), 24 ~{OE} (in), 25 A11 (in), 26 A9 (in), 27 A8 (in), 28 A13 (in), 29 A14 (in), 30 A17 (in), 31 ~{PROG} (in), 32 VCC (power)

## M27C2001-80XL6
designator U?
2 Mbit (256Kb x 8) UV EPROM and OTP EPROM; Published: 24-Aug-2001; LatestRevisionDate: 17-Jul-2002; LatestRevisionNote: Re-released for DXP Platform.; DatasheetDocument: Apr-1999; PackageReference: LCCC32W; Publisher: Altium Limited; ComponentLink1Description: Manufacturer Link; ComponentLink1URL: http://www.st.com/; ComponentLink2Description: Datasheet; ComponentLink2URL: http://www.st.com/stonline/products/literature/ds/2383/m27c2001.pdf
footprint LCCC32W (Leadless Chip Carrier, Ceramic, Window; 32 Terminals; Body 11.4 x 14 mm)
pins: 1 VPP (power), 2 A16 (in), 3 A15 (in), 4 A12 (in), 5 A7 (in), 6 A6 (in), 7 A5 (in), 8 A4 (in), 9 A3 (in), 10 A2 (in), 11 A1 (in), 12 A0 (in), 13 Q0 (io), 14 Q1 (io), 15 Q2 (io), 16 GND (power), 17 Q3 (io), 18 Q4 (io), 19 Q5 (io), 20 Q6 (io), 21 Q7 (io), 22 ~{CE} (in), 23 A10 (in), 24 ~{OE} (in), 25 A11 (in), 26 A9 (in), 27 A8 (in), 28 A13 (in), 29 A14 (in), 30 A17 (in), 31 ~{PROG} (in), 32 VCC (power)

## M27C2001-80XN1
designator U?
2 Mbit (256Kb x 8) UV EPROM and OTP EPROM; Published: 24-Aug-2001; LatestRevisionDate: 6-Jun-2005; LatestRevisionNote: Stylized 3D Model Added.; DatasheetDocument: Apr-1999; PackageDocument: Mar-1999; PackageReference: TSOP32; Publisher: Altium Limited; Code_JEDEC: MO-142-BD; ComponentLink1Description: Manufacturer Link; ComponentLink1URL: http://www.st.com/; ComponentLink2Description: Datasheet; ComponentLink2URL: http://www.st.com/stonline/products/literature/ds/2383/m27c2001.pdf
footprint TSOP32 (Shrink Small Outline, Plastic, Thin; 32 Leads; Body Width 18.4 mm; Pitch 0.5 mm)
3D model TSOP32 (Shrink Small Outline, Plastic, Thin; 32 Leads; Body Width 18.4 mm; Pitch 0.5 mm)
pins: 1 A11 (in), 2 A9 (in), 3 A8 (in), 4 A13 (in), 5 A14 (in), 6 A17 (in), 7 ~{PROG} (in), 8 VCC (power), 9 VPP (power), 10 A16 (in), 11 A15 (in), 12 A12 (in), 13 A7 (in), 14 A6 (in), 15 A5 (in), 16 A4 (in), 17 A3 (in), 18 A2 (in), 19 A1 (in), 20 A0 (in), 21 Q0 (io), 22 Q1 (io), 23 Q2 (io), 24 GND (power), 25 Q3 (io), 26 Q4 (io), 27 Q5 (io), 28 Q6 (io), 29 Q7 (io), 30 ~{CE} (in), 31 A10 (in), 32 ~{OE} (in)

## M27C2001-80XN6
designator U?
2 Mbit (256Kb x 8) UV EPROM and OTP EPROM; Published: 24-Aug-2001; LatestRevisionDate: 6-Jun-2005; LatestRevisionNote: Stylized 3D Model Added.; DatasheetDocument: Apr-1999; PackageDocument: Mar-1999; PackageReference: TSOP32; Publisher: Altium Limited; Code_JEDEC: MO-142-BD; ComponentLink1Description: Manufacturer Link; ComponentLink1URL: http://www.st.com/; ComponentLink2Description: Datasheet; ComponentLink2URL: http://www.st.com/stonline/products/literature/ds/2383/m27c2001.pdf
footprint TSOP32 (Shrink Small Outline, Plastic, Thin; 32 Leads; Body Width 18.4 mm; Pitch 0.5 mm)
3D model TSOP32 (Shrink Small Outline, Plastic, Thin; 32 Leads; Body Width 18.4 mm; Pitch 0.5 mm)
pins: 1 A11 (in), 2 A9 (in), 3 A8 (in), 4 A13 (in), 5 A14 (in), 6 A17 (in), 7 ~{PROG} (in), 8 VCC (power), 9 VPP (power), 10 A16 (in), 11 A15 (in), 12 A12 (in), 13 A7 (in), 14 A6 (in), 15 A5 (in), 16 A4 (in), 17 A3 (in), 18 A2 (in), 19 A1 (in), 20 A0 (in), 21 Q0 (io), 22 Q1 (io), 23 Q2 (io), 24 GND (power), 25 Q3 (io), 26 Q4 (io), 27 Q5 (io), 28 Q6 (io), 29 Q7 (io), 30 ~{CE} (in), 31 A10 (in), 32 ~{OE} (in)

## M27C2001-90C1
designator U?
2 Mbit (256Kb x 8) UV EPROM and OTP EPROM; Published: 24-Aug-2001; LatestRevisionDate: 6-Jun-2005; LatestRevisionNote: Stylized 3D Model Added.; DatasheetDocument: Apr-1999; PackageDocument: Jun-1998; PackageReference: PLCC32; Publisher: Altium Limited; Code_JEDEC: MS-016-AE; Code_IPC: PLCC/R-32; ComponentLink1Description: Manufacturer Link; ComponentLink1URL: http://www.st.com/; ComponentLink2Description: Datasheet; ComponentLink2URL: http://www.st.com/stonline/products/literature/ds/2383/m27c2001.pdf
footprint PLCC32 (Leaded Chip Carrier; 32 Leads; Body 11.4 x 14 mm)
3D model M27C2001-PLCC32 (Leaded Chip Carrier; 32 Leads; Body 11.4 x 14 mm)
pins: 1 VPP (power), 2 A16 (in), 3 A15 (in), 4 A12 (in), 5 A7 (in), 6 A6 (in), 7 A5 (in), 8 A4 (in), 9 A3 (in), 10 A2 (in), 11 A1 (in), 12 A0 (in), 13 Q0 (io), 14 Q1 (io), 15 Q2 (io), 16 GND (power), 17 Q3 (io), 18 Q4 (io), 19 Q5 (io), 20 Q6 (io), 21 Q7 (io), 22 ~{CE} (in), 23 A10 (in), 24 ~{OE} (in), 25 A11 (in), 26 A9 (in), 27 A8 (in), 28 A13 (in), 29 A14 (in), 30 A17 (in), 31 ~{PROG} (in), 32 VCC (power)

## M27C2001-90C6
designator U?
2 Mbit (256Kb x 8) UV EPROM and OTP EPROM; Published: 24-Aug-2001; LatestRevisionDate: 6-Jun-2005; LatestRevisionNote: Stylized 3D Model Added.; DatasheetDocument: Apr-1999; PackageDocument: Jun-1998; PackageReference: PLCC32; Publisher: Altium Limited; Code_JEDEC: MS-016-AE; Code_IPC: PLCC/R-32; ComponentLink1Description: Manufacturer Link; ComponentLink1URL: http://www.st.com/; ComponentLink2Description: Datasheet; ComponentLink2URL: http://www.st.com/stonline/products/literature/ds/2383/m27c2001.pdf
footprint PLCC32 (Leaded Chip Carrier; 32 Leads; Body 11.4 x 14 mm)
3D model M27C2001-PLCC32 (Leaded Chip Carrier; 32 Leads; Body 11.4 x 14 mm)
pins: 1 VPP (power), 2 A16 (in), 3 A15 (in), 4 A12 (in), 5 A7 (in), 6 A6 (in), 7 A5 (in), 8 A4 (in), 9 A3 (in), 10 A2 (in), 11 A1 (in), 12 A0 (in), 13 Q0 (io), 14 Q1 (io), 15 Q2 (io), 16 GND (power), 17 Q3 (io), 18 Q4 (io), 19 Q5 (io), 20 Q6 (io), 21 Q7 (io), 22 ~{CE} (in), 23 A10 (in), 24 ~{OE} (in), 25 A11 (in), 26 A9 (in), 27 A8 (in), 28 A13 (in), 29 A14 (in), 30 A17 (in), 31 ~{PROG} (in), 32 VCC (power)

## M27C2001-90F1
designator U?
2 Mbit (256Kb x 8) UV EPROM and OTP EPROM; Published: 24-Aug-2001; LatestRevisionDate: 6-Jun-2005; LatestRevisionNote: Stylized 3D Model Added.; DatasheetDocument: Apr-1999; PackageReference: FDIP32W; Publisher: Altium Limited; ComponentLink1Description: Manufacturer Link; ComponentLink1URL: http://www.st.com/; ComponentLink2Description: Datasheet; ComponentLink2URL: http://www.st.com/stonline/products/literature/ds/2383/m27c2001.pdf
footprint FDIP32W (Ceramic Frit-seal DIP, Window; 32 Leads; Row Spacing 15.24 mm; Pitch 2.54 mm)
3D model FDIP32W (Ceramic Frit-seal DIP, Window; 32 Leads; Row Spacing 15.24 mm; Pitch 2.54 mm)
pins: 1 VPP (power), 2 A16 (in), 3 A15 (in), 4 A12 (in), 5 A7 (in), 6 A6 (in), 7 A5 (in), 8 A4 (in), 9 A3 (in), 10 A2 (in), 11 A1 (in), 12 A0 (in), 13 Q0 (io), 14 Q1 (io), 15 Q2 (io), 16 GND (power), 17 Q3 (io), 18 Q4 (io), 19 Q5 (io), 20 Q6 (io), 21 Q7 (io), 22 ~{CE} (in), 23 A10 (in), 24 ~{OE} (in), 25 A11 (in), 26 A9 (in), 27 A8 (in), 28 A13 (in), 29 A14 (in), 30 A17 (in), 31 ~{PROG} (in), 32 VCC (power)

## M27C2001-90F6
designator U?
2 Mbit (256Kb x 8) UV EPROM and OTP EPROM; Published: 24-Aug-2001; LatestRevisionDate: 6-Jun-2005; LatestRevisionNote: Stylized 3D Model Added.; DatasheetDocument: Apr-1999; PackageReference: FDIP32W; Publisher: Altium Limited; ComponentLink1Description: Manufacturer Link; ComponentLink1URL: http://www.st.com/; ComponentLink2Description: Datasheet; ComponentLink2URL: http://www.st.com/stonline/products/literature/ds/2383/m27c2001.pdf
footprint FDIP32W (Ceramic Frit-seal DIP, Window; 32 Leads; Row Spacing 15.24 mm; Pitch 2.54 mm)
3D model FDIP32W (Ceramic Frit-seal DIP, Window; 32 Leads; Row Spacing 15.24 mm; Pitch 2.54 mm)
pins: 1 VPP (power), 2 A16 (in), 3 A15 (in), 4 A12 (in), 5 A7 (in), 6 A6 (in), 7 A5 (in), 8 A4 (in), 9 A3 (in), 10 A2 (in), 11 A1 (in), 12 A0 (in), 13 Q0 (io), 14 Q1 (io), 15 Q2 (io), 16 GND (power), 17 Q3 (io), 18 Q4 (io), 19 Q5 (io), 20 Q6 (io), 21 Q7 (io), 22 ~{CE} (in), 23 A10 (in), 24 ~{OE} (in), 25 A11 (in), 26 A9 (in), 27 A8 (in), 28 A13 (in), 29 A14 (in), 30 A17 (in), 31 ~{PROG} (in), 32 VCC (power)

## M27C2001-90L1
designator U?
2 Mbit (256Kb x 8) UV EPROM and OTP EPROM; Published: 24-Aug-2001; LatestRevisionDate: 17-Jul-2002; LatestRevisionNote: Re-released for DXP Platform.; DatasheetDocument: Apr-1999; PackageReference: LCCC32W; Publisher: Altium Limited; ComponentLink1Description: Manufacturer Link; ComponentLink1URL: http://www.st.com/; ComponentLink2Description: Datasheet; ComponentLink2URL: http://www.st.com/stonline/products/literature/ds/2383/m27c2001.pdf
footprint LCCC32W (Leadless Chip Carrier, Ceramic, Window; 32 Terminals; Body 11.4 x 14 mm)
pins: 1 VPP (power), 2 A16 (in), 3 A15 (in), 4 A12 (in), 5 A7 (in), 6 A6 (in), 7 A5 (in), 8 A4 (in), 9 A3 (in), 10 A2 (in), 11 A1 (in), 12 A0 (in), 13 Q0 (io), 14 Q1 (io), 15 Q2 (io), 16 GND (power), 17 Q3 (io), 18 Q4 (io), 19 Q5 (io), 20 Q6 (io), 21 Q7 (io), 22 ~{CE} (in), 23 A10 (in), 24 ~{OE} (in), 25 A11 (in), 26 A9 (in), 27 A8 (in), 28 A13 (in), 29 A14 (in), 30 A17 (in), 31 ~{PROG} (in), 32 VCC (power)

## M27C2001-90L6
designator U?
2 Mbit (256Kb x 8) UV EPROM and OTP EPROM; Published: 24-Aug-2001; LatestRevisionDate: 17-Jul-2002; LatestRevisionNote: Re-released for DXP Platform.; DatasheetDocument: Apr-1999; PackageReference: LCCC32W; Publisher: Altium Limited; ComponentLink1Description: Manufacturer Link; ComponentLink1URL: http://www.st.com/; ComponentLink2Description: Datasheet; ComponentLink2URL: http://www.st.com/stonline/products/literature/ds/2383/m27c2001.pdf
footprint LCCC32W (Leadless Chip Carrier, Ceramic, Window; 32 Terminals; Body 11.4 x 14 mm)
pins: 1 VPP (power), 2 A16 (in), 3 A15 (in), 4 A12 (in), 5 A7 (in), 6 A6 (in), 7 A5 (in), 8 A4 (in), 9 A3 (in), 10 A2 (in), 11 A1 (in), 12 A0 (in), 13 Q0 (io), 14 Q1 (io), 15 Q2 (io), 16 GND (power), 17 Q3 (io), 18 Q4 (io), 19 Q5 (io), 20 Q6 (io), 21 Q7 (io), 22 ~{CE} (in), 23 A10 (in), 24 ~{OE} (in), 25 A11 (in), 26 A9 (in), 27 A8 (in), 28 A13 (in), 29 A14 (in), 30 A17 (in), 31 ~{PROG} (in), 32 VCC (power)

## M27C2001-90N1
designator U?
2 Mbit (256Kb x 8) UV EPROM and OTP EPROM; Published: 24-Aug-2001; LatestRevisionDate: 6-Jun-2005; LatestRevisionNote: Stylized 3D Model Added.; DatasheetDocument: Apr-1999; PackageDocument: Mar-1999; PackageReference: TSOP32; Publisher: Altium Limited; Code_JEDEC: MO-142-BD; ComponentLink1Description: Manufacturer Link; ComponentLink1URL: http://www.st.com/; ComponentLink2Description: Datasheet; ComponentLink2URL: http://www.st.com/stonline/products/literature/ds/2383/m27c2001.pdf
footprint TSOP32 (Shrink Small Outline, Plastic, Thin; 32 Leads; Body Width 18.4 mm; Pitch 0.5 mm)
3D model TSOP32 (Shrink Small Outline, Plastic, Thin; 32 Leads; Body Width 18.4 mm; Pitch 0.5 mm)
pins: 1 A11 (in), 2 A9 (in), 3 A8 (in), 4 A13 (in), 5 A14 (in), 6 A17 (in), 7 ~{PROG} (in), 8 VCC (power), 9 VPP (power), 10 A16 (in), 11 A15 (in), 12 A12 (in), 13 A7 (in), 14 A6 (in), 15 A5 (in), 16 A4 (in), 17 A3 (in), 18 A2 (in), 19 A1 (in), 20 A0 (in), 21 Q0 (io), 22 Q1 (io), 23 Q2 (io), 24 GND (power), 25 Q3 (io), 26 Q4 (io), 27 Q5 (io), 28 Q6 (io), 29 Q7 (io), 30 ~{CE} (in), 31 A10 (in), 32 ~{OE} (in)

## M27C2001-90N6
designator U?
2 Mbit (256Kb x 8) UV EPROM and OTP EPROM; Published: 24-Aug-2001; LatestRevisionDate: 6-Jun-2005; LatestRevisionNote: Stylized 3D Model Added.; DatasheetDocument: Apr-1999; PackageDocument: Mar-1999; PackageReference: TSOP32; Publisher: Altium Limited; Code_JEDEC: MO-142-BD; ComponentLink1Description: Manufacturer Link; ComponentLink1URL: http://www.st.com/; ComponentLink2Description: Datasheet; ComponentLink2URL: http://www.st.com/stonline/products/literature/ds/2383/m27c2001.pdf
footprint TSOP32 (Shrink Small Outline, Plastic, Thin; 32 Leads; Body Width 18.4 mm; Pitch 0.5 mm)
3D model TSOP32 (Shrink Small Outline, Plastic, Thin; 32 Leads; Body Width 18.4 mm; Pitch 0.5 mm)
pins: 1 A11 (in), 2 A9 (in), 3 A8 (in), 4 A13 (in), 5 A14 (in), 6 A17 (in), 7 ~{PROG} (in), 8 VCC (power), 9 VPP (power), 10 A16 (in), 11 A15 (in), 12 A12 (in), 13 A7 (in), 14 A6 (in), 15 A5 (in), 16 A4 (in), 17 A3 (in), 18 A2 (in), 19 A1 (in), 20 A0 (in), 21 Q0 (io), 22 Q1 (io), 23 Q2 (io), 24 GND (power), 25 Q3 (io), 26 Q4 (io), 27 Q5 (io), 28 Q6 (io), 29 Q7 (io), 30 ~{CE} (in), 31 A10 (in), 32 ~{OE} (in)

## M27C2001-90XC1
designator U?
2 Mbit (256Kb x 8) UV EPROM and OTP EPROM; Published: 24-Aug-2001; LatestRevisionDate: 6-Jun-2005; LatestRevisionNote: Stylized 3D Model Added.; DatasheetDocument: Apr-1999; PackageDocument: Jun-1998; PackageReference: PLCC32; Publisher: Altium Limited; Code_JEDEC: MS-016-AE; Code_IPC: PLCC/R-32; ComponentLink1Description: Manufacturer Link; ComponentLink1URL: http://www.st.com/; ComponentLink2Description: Datasheet; ComponentLink2URL: http://www.st.com/stonline/products/literature/ds/2383/m27c2001.pdf
footprint PLCC32 (Leaded Chip Carrier; 32 Leads; Body 11.4 x 14 mm)
3D model M27C2001-PLCC32 (Leaded Chip Carrier; 32 Leads; Body 11.4 x 14 mm)
pins: 1 VPP (power), 2 A16 (in), 3 A15 (in), 4 A12 (in), 5 A7 (in), 6 A6 (in), 7 A5 (in), 8 A4 (in), 9 A3 (in), 10 A2 (in), 11 A1 (in), 12 A0 (in), 13 Q0 (io), 14 Q1 (io), 15 Q2 (io), 16 GND (power), 17 Q3 (io), 18 Q4 (io), 19 Q5 (io), 20 Q6 (io), 21 Q7 (io), 22 ~{CE} (in), 23 A10 (in), 24 ~{OE} (in), 25 A11 (in), 26 A9 (in), 27 A8 (in), 28 A13 (in), 29 A14 (in), 30 A17 (in), 31 ~{PROG} (in), 32 VCC (power)

## M27C2001-90XC6
designator U?
2 Mbit (256Kb x 8) UV EPROM and OTP EPROM; Published: 24-Aug-2001; LatestRevisionDate: 6-Jun-2005; LatestRevisionNote: Stylized 3D Model Added.; DatasheetDocument: Apr-1999; PackageDocument: Jun-1998; PackageReference: PLCC32; Publisher: Altium Limited; Code_JEDEC: MS-016-AE; Code_IPC: PLCC/R-32; ComponentLink1Description: Manufacturer Link; ComponentLink1URL: http://www.st.com/; ComponentLink2Description: Datasheet; ComponentLink2URL: http://www.st.com/stonline/products/literature/ds/2383/m27c2001.pdf
footprint PLCC32 (Leaded Chip Carrier; 32 Leads; Body 11.4 x 14 mm)
3D model M27C2001-PLCC32 (Leaded Chip Carrier; 32 Leads; Body 11.4 x 14 mm)
pins: 1 VPP (power), 2 A16 (in), 3 A15 (in), 4 A12 (in), 5 A7 (in), 6 A6 (in), 7 A5 (in), 8 A4 (in), 9 A3 (in), 10 A2 (in), 11 A1 (in), 12 A0 (in), 13 Q0 (io), 14 Q1 (io), 15 Q2 (io), 16 GND (power), 17 Q3 (io), 18 Q4 (io), 19 Q5 (io), 20 Q6 (io), 21 Q7 (io), 22 ~{CE} (in), 23 A10 (in), 24 ~{OE} (in), 25 A11 (in), 26 A9 (in), 27 A8 (in), 28 A13 (in), 29 A14 (in), 30 A17 (in), 31 ~{PROG} (in), 32 VCC (power)

## M27C2001-90XF1
designator U?
2 Mbit (256Kb x 8) UV EPROM and OTP EPROM; Published: 24-Aug-2001; LatestRevisionDate: 6-Jun-2005; LatestRevisionNote: Stylized 3D Model Added.; DatasheetDocument: Apr-1999; PackageReference: FDIP32W; Publisher: Altium Limited; ComponentLink1Description: Manufacturer Link; ComponentLink1URL: http://www.st.com/; ComponentLink2Description: Datasheet; ComponentLink2URL: http://www.st.com/stonline/products/literature/ds/2383/m27c2001.pdf
footprint FDIP32W (Ceramic Frit-seal DIP, Window; 32 Leads; Row Spacing 15.24 mm; Pitch 2.54 mm)
3D model FDIP32W (Ceramic Frit-seal DIP, Window; 32 Leads; Row Spacing 15.24 mm; Pitch 2.54 mm)
pins: 1 VPP (power), 2 A16 (in), 3 A15 (in), 4 A12 (in), 5 A7 (in), 6 A6 (in), 7 A5 (in), 8 A4 (in), 9 A3 (in), 10 A2 (in), 11 A1 (in), 12 A0 (in), 13 Q0 (io), 14 Q1 (io), 15 Q2 (io), 16 GND (power), 17 Q3 (io), 18 Q4 (io), 19 Q5 (io), 20 Q6 (io), 21 Q7 (io), 22 ~{CE} (in), 23 A10 (in), 24 ~{OE} (in), 25 A11 (in), 26 A9 (in), 27 A8 (in), 28 A13 (in), 29 A14 (in), 30 A17 (in), 31 ~{PROG} (in), 32 VCC (power)

## M27C2001-90XF6
designator U?
2 Mbit (256Kb x 8) UV EPROM and OTP EPROM; Published: 24-Aug-2001; LatestRevisionDate: 6-Jun-2005; LatestRevisionNote: Stylized 3D Model Added.; DatasheetDocument: Apr-1999; PackageReference: FDIP32W; Publisher: Altium Limited; ComponentLink1Description: Manufacturer Link; ComponentLink1URL: http://www.st.com/; ComponentLink2Description: Datasheet; ComponentLink2URL: http://www.st.com/stonline/products/literature/ds/2383/m27c2001.pdf
footprint FDIP32W (Ceramic Frit-seal DIP, Window; 32 Leads; Row Spacing 15.24 mm; Pitch 2.54 mm)
3D model FDIP32W (Ceramic Frit-seal DIP, Window; 32 Leads; Row Spacing 15.24 mm; Pitch 2.54 mm)
pins: 1 VPP (power), 2 A16 (in), 3 A15 (in), 4 A12 (in), 5 A7 (in), 6 A6 (in), 7 A5 (in), 8 A4 (in), 9 A3 (in), 10 A2 (in), 11 A1 (in), 12 A0 (in), 13 Q0 (io), 14 Q1 (io), 15 Q2 (io), 16 GND (power), 17 Q3 (io), 18 Q4 (io), 19 Q5 (io), 20 Q6 (io), 21 Q7 (io), 22 ~{CE} (in), 23 A10 (in), 24 ~{OE} (in), 25 A11 (in), 26 A9 (in), 27 A8 (in), 28 A13 (in), 29 A14 (in), 30 A17 (in), 31 ~{PROG} (in), 32 VCC (power)

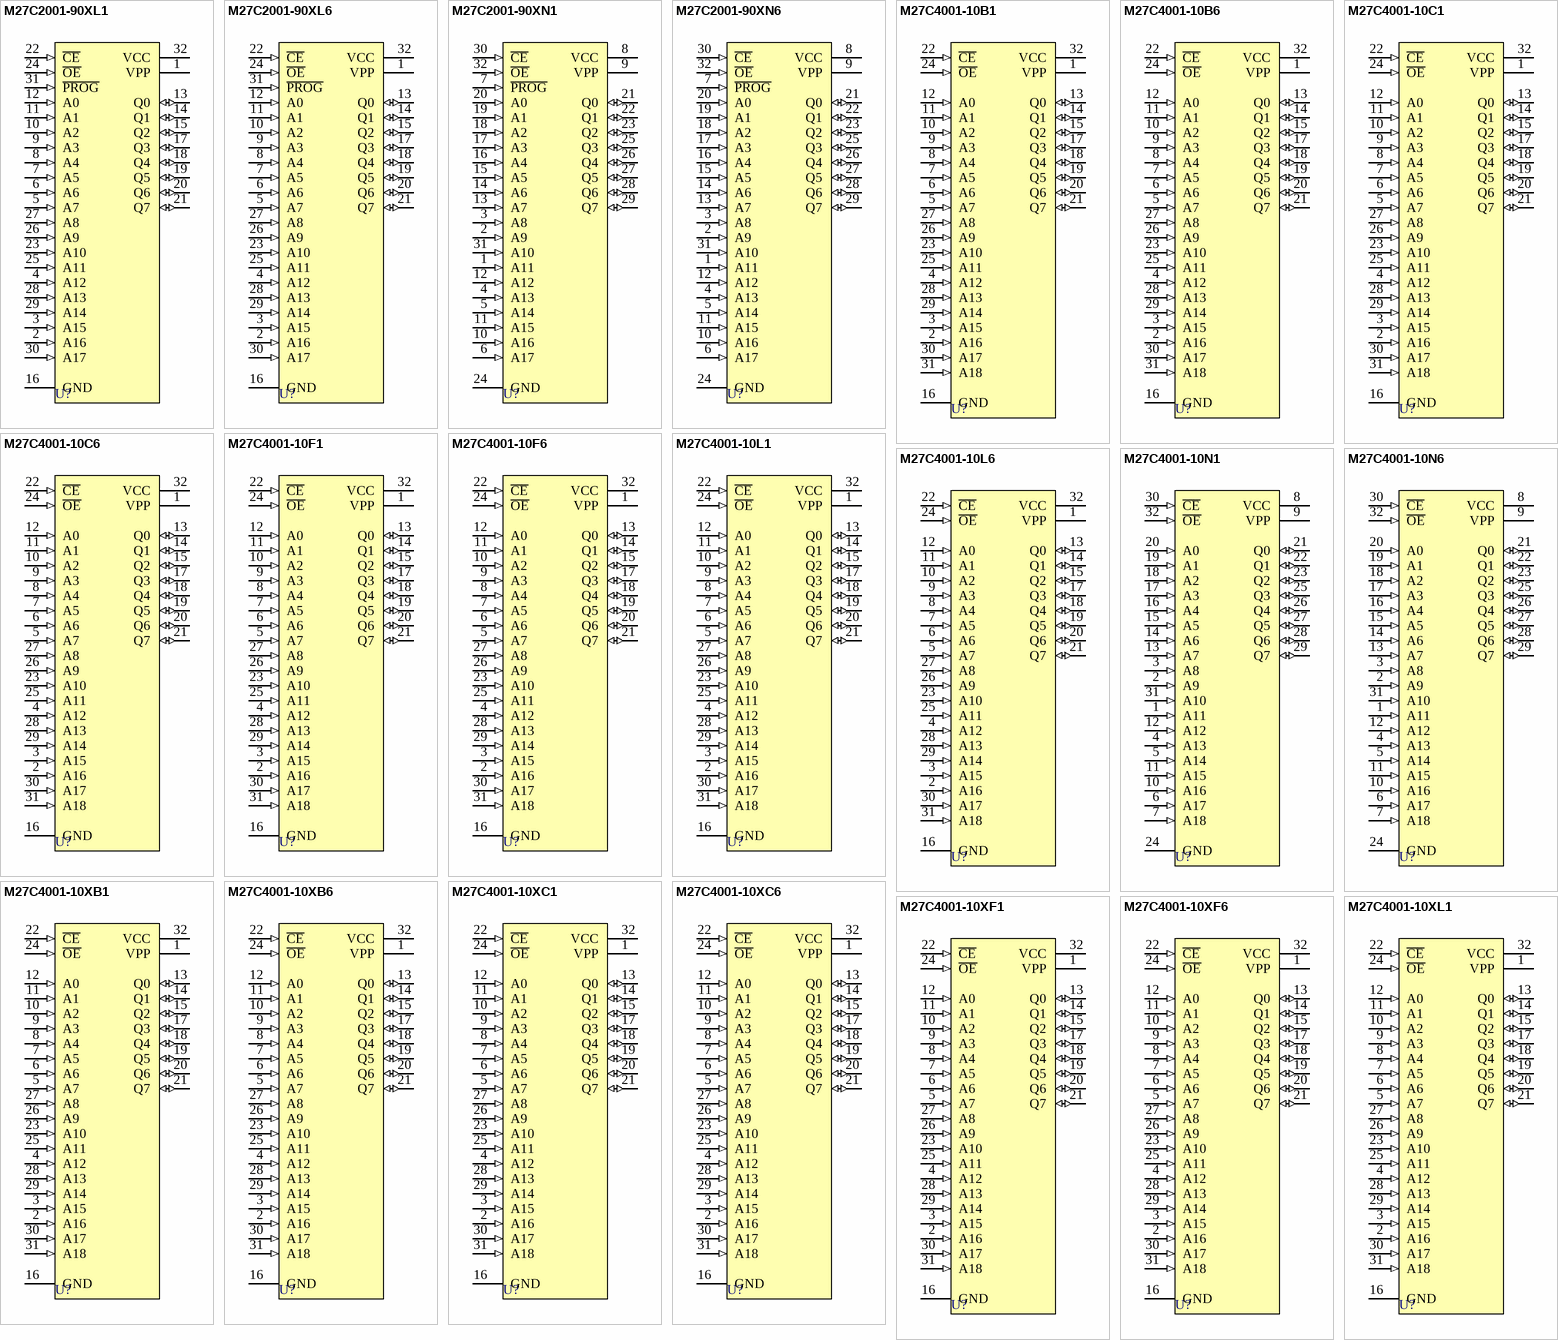
[diagram p34: symbols M27C2001-90XL1 to M27C4001-10XL1]

## M27C2001-90XL1
designator U?
2 Mbit (256Kb x 8) UV EPROM and OTP EPROM; Published: 24-Aug-2001; LatestRevisionDate: 17-Jul-2002; LatestRevisionNote: Re-released for DXP Platform.; DatasheetDocument: Apr-1999; PackageReference: LCCC32W; Publisher: Altium Limited; ComponentLink1Description: Manufacturer Link; ComponentLink1URL: http://www.st.com/; ComponentLink2Description: Datasheet; ComponentLink2URL: http://www.st.com/stonline/products/literature/ds/2383/m27c2001.pdf
footprint LCCC32W (Leadless Chip Carrier, Ceramic, Window; 32 Terminals; Body 11.4 x 14 mm)
pins: 1 VPP (power), 2 A16 (in), 3 A15 (in), 4 A12 (in), 5 A7 (in), 6 A6 (in), 7 A5 (in), 8 A4 (in), 9 A3 (in), 10 A2 (in), 11 A1 (in), 12 A0 (in), 13 Q0 (io), 14 Q1 (io), 15 Q2 (io), 16 GND (power), 17 Q3 (io), 18 Q4 (io), 19 Q5 (io), 20 Q6 (io), 21 Q7 (io), 22 ~{CE} (in), 23 A10 (in), 24 ~{OE} (in), 25 A11 (in), 26 A9 (in), 27 A8 (in), 28 A13 (in), 29 A14 (in), 30 A17 (in), 31 ~{PROG} (in), 32 VCC (power)

## M27C2001-90XL6
designator U?
2 Mbit (256Kb x 8) UV EPROM and OTP EPROM; Published: 24-Aug-2001; LatestRevisionDate: 17-Jul-2002; LatestRevisionNote: Re-released for DXP Platform.; DatasheetDocument: Apr-1999; PackageReference: LCCC32W; Publisher: Altium Limited; ComponentLink1Description: Manufacturer Link; ComponentLink1URL: http://www.st.com/; ComponentLink2Description: Datasheet; ComponentLink2URL: http://www.st.com/stonline/products/literature/ds/2383/m27c2001.pdf
footprint LCCC32W (Leadless Chip Carrier, Ceramic, Window; 32 Terminals; Body 11.4 x 14 mm)
pins: 1 VPP (power), 2 A16 (in), 3 A15 (in), 4 A12 (in), 5 A7 (in), 6 A6 (in), 7 A5 (in), 8 A4 (in), 9 A3 (in), 10 A2 (in), 11 A1 (in), 12 A0 (in), 13 Q0 (io), 14 Q1 (io), 15 Q2 (io), 16 GND (power), 17 Q3 (io), 18 Q4 (io), 19 Q5 (io), 20 Q6 (io), 21 Q7 (io), 22 ~{CE} (in), 23 A10 (in), 24 ~{OE} (in), 25 A11 (in), 26 A9 (in), 27 A8 (in), 28 A13 (in), 29 A14 (in), 30 A17 (in), 31 ~{PROG} (in), 32 VCC (power)

## M27C2001-90XN1
designator U?
2 Mbit (256Kb x 8) UV EPROM and OTP EPROM; Published: 24-Aug-2001; LatestRevisionDate: 6-Jun-2005; LatestRevisionNote: Stylized 3D Model Added.; DatasheetDocument: Apr-1999; PackageDocument: Mar-1999; PackageReference: TSOP32; Publisher: Altium Limited; Code_JEDEC: MO-142-BD; ComponentLink1Description: Manufacturer Link; ComponentLink1URL: http://www.st.com/; ComponentLink2Description: Datasheet; ComponentLink2URL: http://www.st.com/stonline/products/literature/ds/2383/m27c2001.pdf
footprint TSOP32 (Shrink Small Outline, Plastic, Thin; 32 Leads; Body Width 18.4 mm; Pitch 0.5 mm)
3D model TSOP32 (Shrink Small Outline, Plastic, Thin; 32 Leads; Body Width 18.4 mm; Pitch 0.5 mm)
pins: 1 A11 (in), 2 A9 (in), 3 A8 (in), 4 A13 (in), 5 A14 (in), 6 A17 (in), 7 ~{PROG} (in), 8 VCC (power), 9 VPP (power), 10 A16 (in), 11 A15 (in), 12 A12 (in), 13 A7 (in), 14 A6 (in), 15 A5 (in), 16 A4 (in), 17 A3 (in), 18 A2 (in), 19 A1 (in), 20 A0 (in), 21 Q0 (io), 22 Q1 (io), 23 Q2 (io), 24 GND (power), 25 Q3 (io), 26 Q4 (io), 27 Q5 (io), 28 Q6 (io), 29 Q7 (io), 30 ~{CE} (in), 31 A10 (in), 32 ~{OE} (in)

## M27C2001-90XN6
designator U?
2 Mbit (256Kb x 8) UV EPROM and OTP EPROM; Published: 24-Aug-2001; LatestRevisionDate: 6-Jun-2005; LatestRevisionNote: Stylized 3D Model Added.; DatasheetDocument: Apr-1999; PackageDocument: Mar-1999; PackageReference: TSOP32; Publisher: Altium Limited; Code_JEDEC: MO-142-BD; ComponentLink1Description: Manufacturer Link; ComponentLink1URL: http://www.st.com/; ComponentLink2Description: Datasheet; ComponentLink2URL: http://www.st.com/stonline/products/literature/ds/2383/m27c2001.pdf
footprint TSOP32 (Shrink Small Outline, Plastic, Thin; 32 Leads; Body Width 18.4 mm; Pitch 0.5 mm)
3D model TSOP32 (Shrink Small Outline, Plastic, Thin; 32 Leads; Body Width 18.4 mm; Pitch 0.5 mm)
pins: 1 A11 (in), 2 A9 (in), 3 A8 (in), 4 A13 (in), 5 A14 (in), 6 A17 (in), 7 ~{PROG} (in), 8 VCC (power), 9 VPP (power), 10 A16 (in), 11 A15 (in), 12 A12 (in), 13 A7 (in), 14 A6 (in), 15 A5 (in), 16 A4 (in), 17 A3 (in), 18 A2 (in), 19 A1 (in), 20 A0 (in), 21 Q0 (io), 22 Q1 (io), 23 Q2 (io), 24 GND (power), 25 Q3 (io), 26 Q4 (io), 27 Q5 (io), 28 Q6 (io), 29 Q7 (io), 30 ~{CE} (in), 31 A10 (in), 32 ~{OE} (in)

## M27C4001-10B1
designator U?
4 Mbit (512Kb x 8) UV EPROM and OTP EPROM; PackageDocument: 1998; Published: 24-Aug-2001; LatestRevisionDate: 6-Jun-2005; LatestRevisionNote: Stylized 3D Model Added.; DatasheetDocument: Jul-1998; PackageReference: PDIP32; Publisher: Altium Limited; ComponentLink1Description: Manufacturer Link; ComponentLink1URL: http://www.st.com/; ComponentLink2Description: Datasheet; ComponentLink2URL: http://www.st.com/stonline/products/literature/ds/2385/m27c4001.pdf
footprint PDIP32 (DIP, Plastic; 32 Leads; Row Spacing 15.24 mm; Pitch 2.54 mm)
3D model FDIP32W (DIP, Plastic; 32 Leads; Row Spacing 15.24 mm; Pitch 2.54 mm)
pins: 1 VPP (power), 2 A16 (in), 3 A15 (in), 4 A12 (in), 5 A7 (in), 6 A6 (in), 7 A5 (in), 8 A4 (in), 9 A3 (in), 10 A2 (in), 11 A1 (in), 12 A0 (in), 13 Q0 (io), 14 Q1 (io), 15 Q2 (io), 16 GND (power), 17 Q3 (io), 18 Q4 (io), 19 Q5 (io), 20 Q6 (io), 21 Q7 (io), 22 ~{CE} (in), 23 A10 (in), 24 ~{OE} (in), 25 A11 (in), 26 A9 (in), 27 A8 (in), 28 A13 (in), 29 A14 (in), 30 A17 (in), 31 A18 (in), 32 VCC (power)